# EAGLE library part ARIETTAG25 (library ACME_Systems)
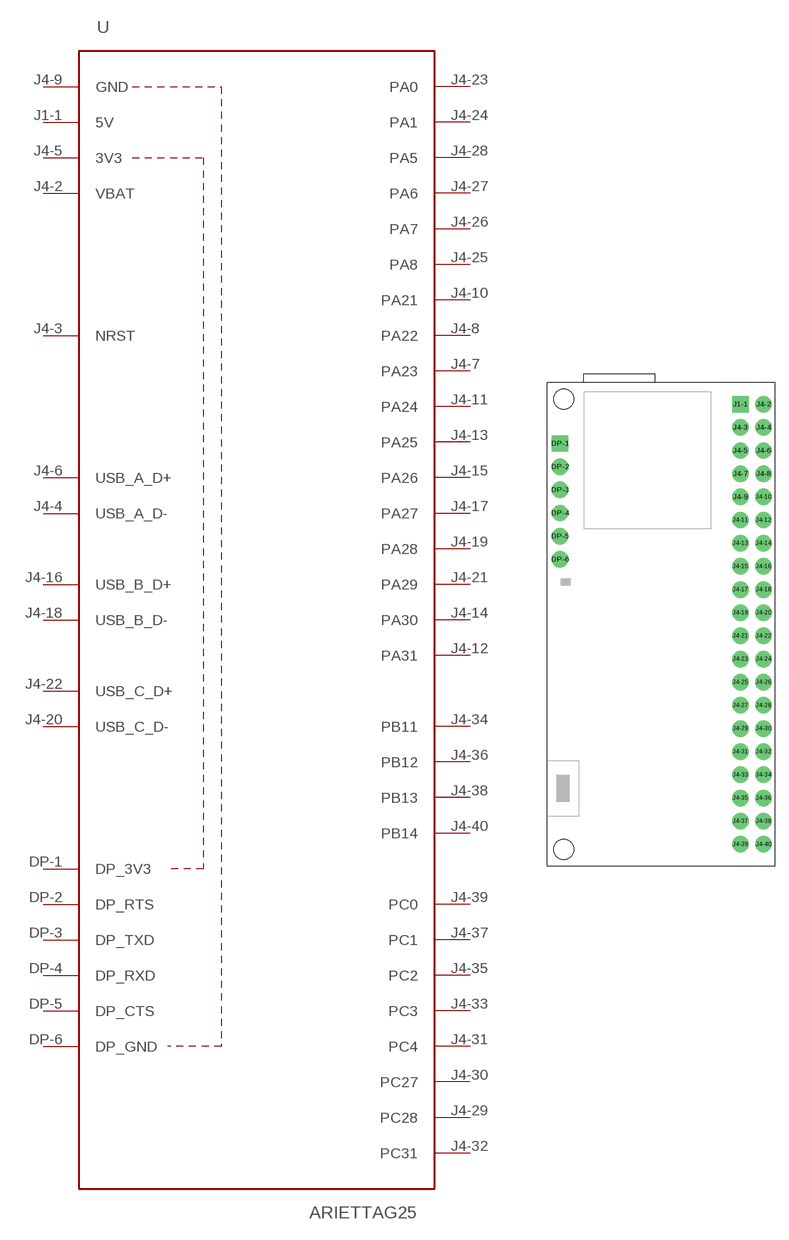
[diagram p0: symbol with the pads of ARIETTAG25; footprint ARIETTAG25]

Designator prefix -

## ARIETTAG25  [ARIETTAG25]
DP-1  DP_3V3
DP-2  DP_RTS
DP-3  DP_TXD
DP-4  DP_RXD
DP-5  DP_CTS
DP-6  DP_GND
J1-1  5V
J4-2  VBAT
J4-3  NRST
J4-4  USB_A_D-
J4-5  3V3
J4-6  USB_A_D+
J4-7  PA23
J4-8  PA22
J4-9  GND
J4-10  PA21
J4-11  PA24
J4-12  PA31
J4-13  PA25
J4-14  PA30
J4-15  PA26
J4-16  USB_B_D+
J4-17  PA27
J4-18  USB_B_D-
J4-19  PA28
J4-20  USB_C_D-
J4-21  PA29
J4-22  USB_C_D+
J4-23  PA0
J4-24  PA1
J4-25  PA8
J4-26  PA7
J4-27  PA6
J4-28  PA5
J4-29  PC28
J4-30  PC27
J4-31  PC4
J4-32  PC31
J4-33  PC3
J4-34  PB11
J4-35  PC2
J4-36  PB12
J4-37  PC1
J4-38  PB13
J4-39  PC0
J4-40  PB14

## Footprint ARIETTAG25 (pad centres in mm)
drill 1 pad 1.8 square: DP-1 1.4,46.32; J1-1 21.18,50.63
drill 1 pad 1.8: DP-2 1.4,43.78; DP-3 1.4,41.24; DP-4 1.4,38.7; DP-5 1.4,36.16; DP-6 1.4,33.62; J4-2 23.72,50.63; J4-3 21.18,48.09; J4-4 23.72,48.09; J4-5 21.18,45.55; J4-6 23.72,45.55; J4-7 21.18,43.01; J4-8 23.72,43.01; J4-9 21.18,40.47; J4-10 23.72,40.47; J4-11 21.18,37.93; J4-12 23.72,37.93; J4-13 21.18,35.39; J4-14 23.72,35.39; J4-15 21.18,32.85; J4-16 23.72,32.85; J4-17 21.18,30.31; J4-18 23.72,30.31; J4-19 21.18,27.77; J4-20 23.72,27.77; J4-21 21.18,25.23; J4-22 23.72,25.23; J4-23 21.18,22.69; J4-24 23.72,22.69; J4-25 21.18,20.15; J4-26 23.72,20.15; J4-27 21.18,17.61; J4-28 23.72,17.61; J4-29 21.18,15.07; J4-30 23.72,15.07; J4-31 21.18,12.53; J4-32 23.72,12.53; J4-33 21.18,9.99; J4-34 23.72,9.99; J4-35 21.18,7.45; J4-36 23.72,7.45; J4-37 21.18,4.91; J4-38 23.72,4.91; J4-39 21.18,2.37; J4-40 23.72,2.37
hole 2.2 at 1.8,1.8
hole 2.2 at 1.8,51.2